# EAGLE library part TPS75233QPWPREP (library custom_lib)
IC REG LINEAR 3.3V 2A 20HTSSOP
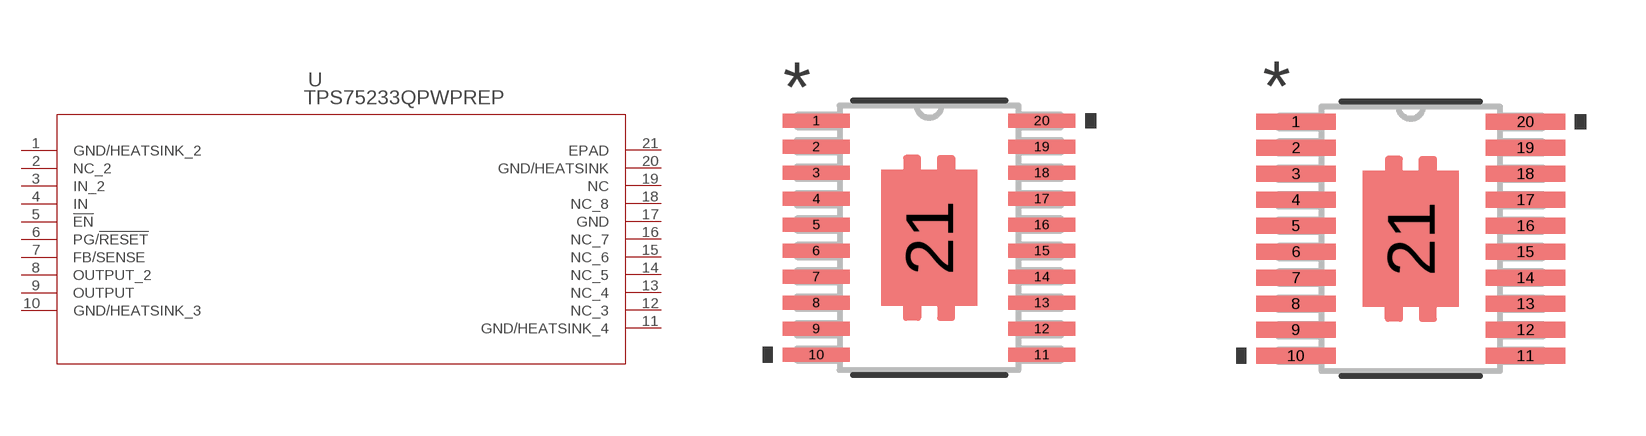
[diagram p3: symbol with the pads of PWP20_3P4X2P4; footprints PWP20_3P4X2P4, PWP20_3P4X2P4-M]

Designator prefix U

## TPS75233QPWPREP (MANUFACTURER_PART_NUMBER: TPS75233QPWPREP; VENDOR: Texas Instruments)  [PWP20_3P4X2P4]
1  GND/HEATSINK_2  pwr
2  NC_2  pas
3  IN_2  in
4  IN  in
5  !EN  in
6  PG/!RESET  out
7  FB/SENSE  in
8  OUTPUT_2  out
9  OUTPUT  out
10  GND/HEATSINK_3  pwr
11  GND/HEATSINK_4  pwr
12  NC_3  pas
13  NC_4  pas
14  NC_5  pas
15  NC_6  pas
16  NC_7  pas
17  GND  pwr
18  NC_8  pas
19  NC  pas
20  GND/HEATSINK  pwr
21  EPAD  pas

## TPS75233QPWPREPPWP20_3P4X2P4-M (MANUFACTURER_PART_NUMBER: TPS75233QPWPREP; VENDOR: Texas Instruments)  [PWP20_3P4X2P4-M]
Pads as for PWP20_3P4X2P4

## TPS75233QPWPREPPWP20_3P4X2P4-L (MANUFACTURER_PART_NUMBER: TPS75233QPWPREP; VENDOR: Texas Instruments)  [PWP20_3P4X2P4-L]
Pads as for PWP20_3P4X2P4

## Footprint PWP20_3P4X2P4 (pad centres in mm)
smd 1.676 x 0.356: 1 -2.819,2.925; 2 -2.819,2.275; 3 -2.819,1.625; 4 -2.819,0.975; 5 -2.819,0.325; 6 -2.819,-0.325; 7 -2.819,-0.975; 8 -2.819,-1.625; 9 -2.819,-2.275; 10 -2.819,-2.925; 11 2.819,-2.925; 12 2.819,-2.275; 13 2.819,-1.625; 14 2.819,-0.975; 15 2.819,-0.325; 16 2.819,0.325; 17 2.819,0.975; 18 2.819,1.625; 19 2.819,2.275; 20 2.819,2.925
smd 2.4 x 3.4: 21 0,0

## Footprint PWP20_3P4X2P4-M (pad centres in mm)
smd 1.981 x 0.406: 1 -2.87,2.925; 2 -2.87,2.275; 3 -2.87,1.625; 4 -2.87,0.975; 5 -2.87,0.325; 6 -2.87,-0.325; 7 -2.87,-0.975; 8 -2.87,-1.625; 9 -2.87,-2.275; 10 -2.87,-2.925; 11 2.87,-2.925; 12 2.87,-2.275; 13 2.87,-1.625; 14 2.87,-0.975; 15 2.87,-0.325; 16 2.87,0.325; 17 2.87,0.975; 18 2.87,1.625; 19 2.87,2.275; 20 2.87,2.925
smd 2.4 x 3.4: 21 0,0

## Footprint PWP20_3P4X2P4-L (pad centres in mm)
smd 1.372 x 0.305: 1 -2.769,2.925; 2 -2.769,2.275; 3 -2.769,1.625; 4 -2.769,0.975; 5 -2.769,0.325; 6 -2.769,-0.325; 7 -2.769,-0.975; 8 -2.769,-1.625; 9 -2.769,-2.275; 10 -2.769,-2.925; 11 2.769,-2.925; 12 2.769,-2.275; 13 2.769,-1.625; 14 2.769,-0.975; 15 2.769,-0.325; 16 2.769,0.325; 17 2.769,0.975; 18 2.769,1.625; 19 2.769,2.275; 20 2.769,2.925
smd 2.4 x 3.4: 21 0,0